# Altium schematic symbol library 2019-06-03_23-23-21.SchLib: 2 symbols
Pins are listed as number, name and electrical type; pins without a type are passive.

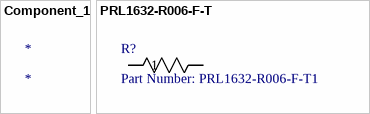
[diagram p0: symbols Component_1 to PRL1632-R006-F-T]

## Component_1
designator *

## PRL1632-R006-F-T
designator R?, comment Part Number: PRL1632-R006-F-T1
No Description Available; Vendor: Susumu; Built_By: EMA_UL_Team; Manufacturer_Part_Number: PRL1632-R006-F-T1; Copyright: Copyright (C) 2018 Accelerated Designs. All rights reserved; RefDes: RefDes; Type: DEV; Value: Value
footprint RES_3216
pins: 1, 2